# Altium integrated library SG_CAN_Board_2019.IntLib: 21 symbols
Pins are listed as number, name and electrical type; pins without a type are passive.

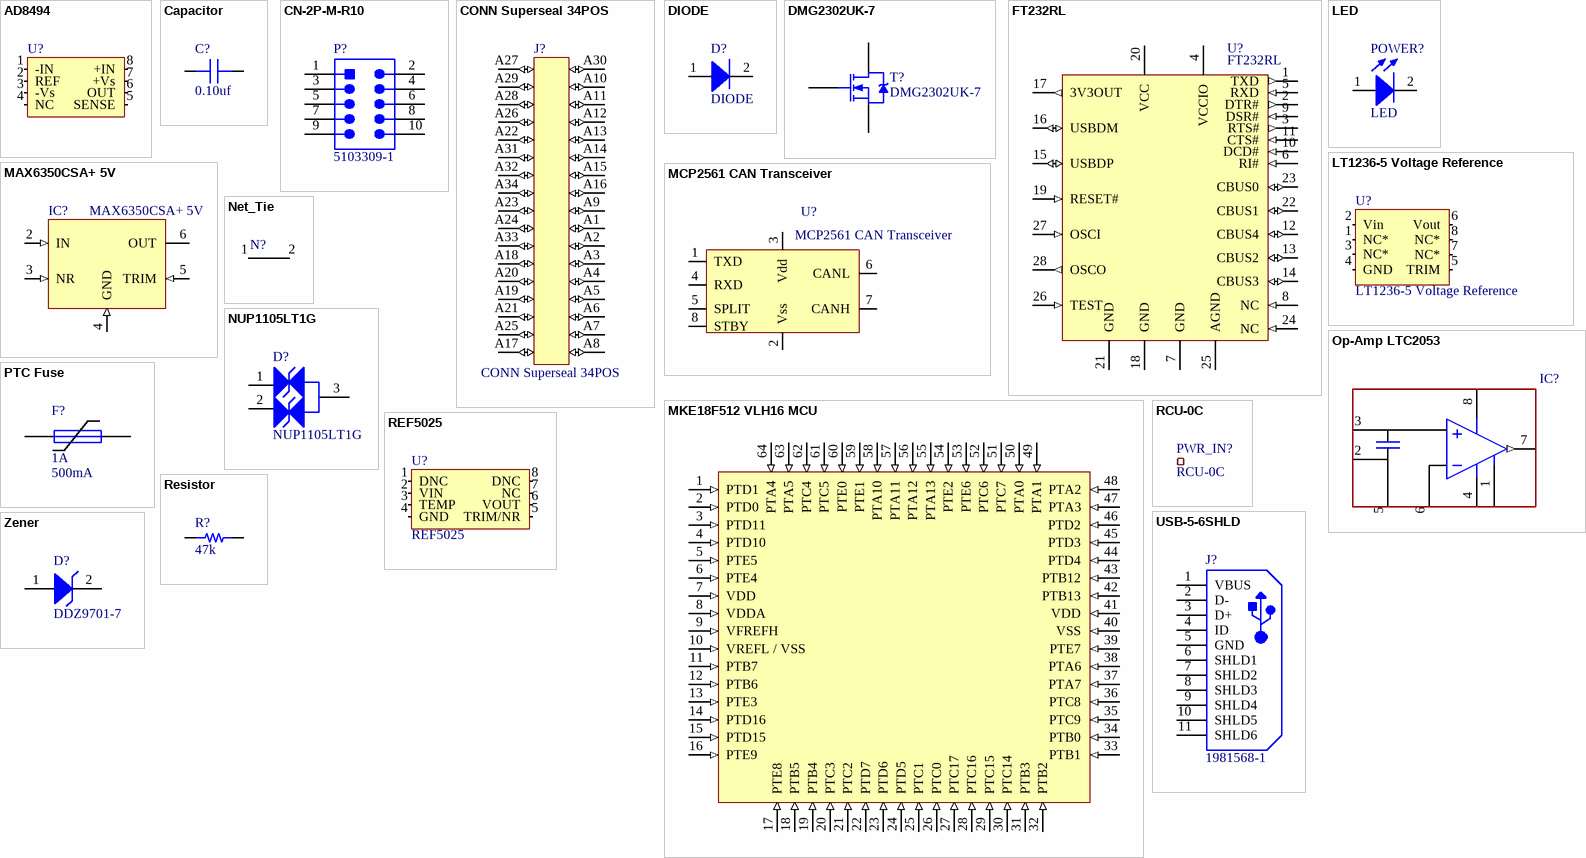
[diagram p0: symbols AD8494 to Zener]

## AD8494
designator U?
IC THRMOCPLE COLD JNC COMP 8MSOP; Manufacturer_id: 1; MfrPartNo: AD8494CRMZ; idOp_Amp: 3; Name: AD8494 Thermocouple Amplifier; Value: K-type; Amplifier_Type: Thermocouple Amplifier; Supply_Voltage: +-18,2.7-36; Created_By: Nick Mah; Drawer_id: 1; Num_Circuits: 1; Package: MSOP8; Link: https://www.digikey.com/product-detail/en/analog-devices-inc/AD8494CRMZ/AD8494CRMZ-ND/2606669; ComponentLink1Description: Datasheet; ComponentLink1URL: http://www.digchip.com/data/041/041-93390-AD8494.pdf; Supplier1: Digi-Key; Supplier1PartNo: AD8494CRMZ-ND
footprint MSOP-8
pins: 1 -IN (in), 2 REF (in), 3 -Vs (power), 4 NC, 5 SENSE (in), 6 OUT (out), 7 +Vs (power), 8 +IN (in)

## Capacitor
designator C?, comment value 0.10uf  (hidden comment: Capacitor MLCC 0.10uf 16V CAP 0603/1608)
Manufacturer_id: 1; idCapacitor: 223; Name: Cap_0.10uf_16V_CAP 0603/1608; Dielectric: Ceramic; Created_By: Nick Mah; Drawer_id: 1; Voltage_Rating: 16V; Package: CAP 0603/1608; Created_Date: 10/20/2018
footprint CAP 0603/1608
pins: 1, 2

## CN-2P-M-R10
designator P?, comment 5103309-1
2 row connector; Manufacturer_id: 1; idConn: 4; Name: CONN_TE_2X5POS; Value: CONN; Voltage_Rating: None; Num_Contacts: 10; Num_Rows: 2; Pitch: 2.54mm; Created_By: Aiku; Drawer_id: 1; MfrPartNo: 5103309-1; Link: https://www.digikey.com/product-detail/en/5103309-1/A33160-ND/1114898?utm_campaign=buynow&WT.z_cid=ref_octopart_dkc_buynow&utm_medium=aggregator&curr=usd&site=us&utm_source=octopart; ComponentLink1Description: Datasheet
footprint HDR2X5_SMT
pins: 1, 2, 3, 4, 5, 6, 7, 8, 9, 10

## CONN Superseal 34POS
designator J?
Connector Header Through Hole, Right Angle 34 position 0.118" (3.00mm); Manufacturer_id: 5; MfrPartNo: 6437288-1; idConn: 11; Drawer_id: 1; Name: AMP Superseal 34 POS; Voltage_Rating: 250VDC; Num_Contacts: 34; Num_Rows: 4; Pitch: 3mm; Value: CONN; Link: https://www.digikey.com/products/en?mpart=6437288-1&&csp=WT.z_cid%3Dsp_8004_20120425_buynow%26TE_cid%3D8004-1541898693362; ComponentLink1Description: Datasheet; ComponentLink1URL: https://www.te.com/commerce/DocumentDelivery/DDEController?Action=srchrtrv&DocNm=6437288-1&DocType=Customer+Drawing&DocLang=Japanese; Supplier1: Digi-Key; Supplier1PartNo: A124384-ND
footprint Superseal 34POS
pins: A1 (io), A2 (io), A3 (io), A4 (io), A5 (io), A6 (io), A7 (io), A8 (io), A9 (io), A10 (io), A11 (io), A12 (io), A13 (io), A14 (io), A15 (io), A16 (io), A17 (io), A18 (io), A19 (io), A20 (io), A21 (io), A22 (io), A23 (io), A24 (io), A25 (io), A26 (io), A27 (io), A28 (io), A29 (io), A30 (io), A31 (io), A32 (io), A33 (io), A34 (io)

## DIODE
designator D?
DIODE SCHOTTKY 30V 5A TMINIP2; Manufacturer_id: 1; idDiode: 12; Name: DB2431200L; Drawer_id: 1; Value: 5A; Type: Schottky; Num_Circuits: 1; Ic: 5A; Power: 30V; Package: SOD-128; MfrPartNo: DB2431200L; Link: https://www.digikey.com/product-detail/en/panasonic-electronic-components/DB2431200L/DB2431200LCT-ND/3884430; ComponentLink1Description: Datasheet; ComponentLink1URL: https://industrial.panasonic.com/content/data/SC/ds/ds4/DB2431200L_E.pdf; Supplier1: Digi-Key; Supplier1PartNo: DB2431200LCT-ND
footprint SOD-128
pins: 1 A, 2 K

## DMG2302UK-7
designator T?
MOSFET N-CHANNEL 30V 5A SOT23; Manufacturer_id: 1; idFETs: 6; Value: N_Channel; Vdss: 20V; Id: 2.8A; Rds_On: 90mOhm; Vgs(typ): 800mV; Vgs(Max): 1V; Created_By: Angel; Drawer_id: 1; Name: DMG2302UK-7; Num_Circuits: 1; Package: SOT-23; MfrPartNo: DMG2302UK-7; Link: https://www.digikey.com/product-detail/en/diodes-incorporated/DMG2302UK-7/DMG2302UK-7DICT-ND/6010163; Supplier1: Digi-Key
footprint SOT23-3
pins: 1 G, 2 S, 3 D

## FT232RL
designator U?
Manufacturer_id: 1; idIC_Interface: 3; Name: USB FTDI; Protocol: UART; Vin(Min): 3.3; Vin(Max): 5.25; Created_By: Kyle; Drawer_id: 1; MfrPartNo: FT232RL; Link: https://www.digikey.com/product-detail/en/ftdi-future-technology-devices-international-ltd/FT232RL-REEL/768-1007-1-ND/1836402
footprint SSOP-28
pins: 1 TXD (out), 2 DTR# (out), 3 RTS# (out), 4 VCCIO, 5 RXD (in), 6 RI# (in), 7 GND, 8 NC (in), 9 DSR# (in), 10 DCD# (in), 11 CTS# (in), 12 CBUS4 (io), 13 CBUS2 (io), 14 CBUS3 (io), 15 USBDP (io), 16 USBDM (io), 17 3V3OUT (out), 18 GND, 19 RESET# (in), 20 VCC, 21 GND, 22 CBUS1 (io), 23 CBUS0 (io), 24 NC (in), 25 AGND, 26 TEST (in), 27 OSCI (in), 28 OSCO (out)

## LED
designator POWER?
Manufacturer_id: 1; idLED: 2; Name: CMD17_0805_GREEN; Value: Green; Brightness: 7mcd; Id: 20mA; Vf: 2.1V; Drawer_id: 1; Package: 0805; Link: https://www.digikey.com/product-detail/en/visual-communications-company-vcc/CMD17-21VGD-TR8/L62505CT-ND/254936
footprint 0805_LED
pins: 1 A, 2 K

## LT1236-5 Voltage Reference
designator U?
Manufacturer_id: 1; idIC_Misc: 2; Name: Voltage Ref LT1236-5; Drawer_id: 1
footprint SOIC-8
pins: 1 NC* "DO NOT CONNECT", 2 Vin (in), 3 NC* "DO NOT CONNECT", 4 GND (in), 5 TRIM (out), 6 Vout (power), 7 NC* "DO NOT CONNECT", 8 NC* "DO NOT CONNECT"

## MAX6350CSA+ 5V
designator IC?
IC VREF SERIES 5V 8SOIC; Manufacturer_id: 1; idPMIC_Lin: 10; Name: MAX6350CSA+_5V_Ref; Vin(Max): 40V; Vout(Max): 12V; Created_By: Albert Panuco; Drawer_id: 1; Value: 5V; Output_Config: 5V; Num_Outputs: 1; Package: SOIC-8; MfrPartNo: MAX6350CSA+; Link: https://www.digikey.com/product-detail/en/maxim-integrated/MAX6350CSA/MAX6350CSA-ND/1867176; Updated_By: Albert Panuco
footprint SOIC-8
pins: 2 IN (in), 3 NR (in), 4 GND (in), 5 TRIM (in), 6 OUT (power)

## MCP2561 CAN Transceiver
designator U?
Manufacturer_id: 1; idIC_Interface: 5; Value: CAN/UART; Data_Rate: 1Mbps; Vin(Min): 4.5V; Vin(Max): 5.5V; Created_By: Angel Delgado; Drawer_id: 1; Name: CAN Transceiver; Type: Transceiver; Protocol: CAN; Num_Circuits: 1; Package: SOIC-8; MfrPartNo: MCP2561; Link: https://www.digikey.com/product-detail/en/microchip-technology/MCP2561T-E-SN/MCP2561T-E-SNCT-ND/5148846
footprint SOIC-8
pins: 1 TXD, 2 Vss, 3 Vdd, 4 RXD, 5 SPLIT, 6 CANL, 7 CANH, 8 STBY

## MKE18F512 VLH16 MCU
designator U?
idMCU: 1; Name: MKE18F512VLH16 MCU; Manufacturer_id: 1; Drawer_id: 1
footprint TQFP64
pins: 1 PTD1 (in), 2 PTD0 (in), 3 PTD11 (in), 4 PTD10 (in), 5 PTE5 (in), 6 PTE4 (in), 7 VDD (in), 8 VDDA (in), 9 VFREFH (in), 10 VREFL / VSS (in), 11 PTB7 (in), 12 PTB6 (in), 13 PTE3 (in), 14 PTD16 (in), 15 PTD15 (in), 16 PTE9 (in), 17 PTE8 (in), 18 PTB5 (in), 19 PTB4 (in), 20 PTC3 (in), 21 PTC2 (in), 22 PTD7 (in), 23 PTD6 (in), 24 PTD5 (in), 25 PTC1 (in), 26 PTC0 (in), 27 PTC17 (in), 28 PTC16 (in), 29 PTC15 (in), 30 PTC14 (in), 31 PTB3 (in), 32 PTB2 (in), 33 PTB1 (in), 34 PTB0 (in), 35 PTC9 (in), 36 PTC8 (in), 37 PTA7 (in), 38 PTA6 (in), 39 PTE7 (in), 40 VSS (in), 41 VDD (in), 42 PTB13 (in), 43 PTB12 (in), 44 PTD4 (in), 45 PTD3 (in), 46 PTD2 (in), 47 PTA3 (in), 48 PTA2 (in), 49 PTA1 (in), 50 PTA0 (in), 51 PTC7 (in), 52 PTC6 (in), 53 PTE6 (in), 54 PTE2 (in), 55 PTA13 (in), 56 PTA12 (in), 57 PTA11 (in), 58 PTA10 (in), 59 PTE1 (in), 60 PTE0 (in), 61 PTC5 (in), 62 PTC4 (in), 63 PTA5 (in), 64 PTA4 (in)

## Net_Tie
designator N?
Manufacturer_id: 1; idFuse: 3; Name: Net Tie; Drawer_id: 1; idShunt: 1
footprint Net_Tie
pins: 1, 2

## NUP1105LT1G
designator D?
ESD Protection Diode; Manufacturer_id: 1; idDiode: 7; Name: SOT-23_350W_Zener; Value: TVS_24V; Type: Zener; Ic: 8A; Power: 350W; Drawer_id: 1; Num_Circuits: 1; Package: SOT-23; MfrPartNo: NUP1105LT1G; Link: https://www.digikey.com/product-detail/en/on-semiconductor/NUP1105LT1G/NUP1105LT1GOSCT-ND/2122067; ComponentLink1URL: https://www.digikey.com/product-detail/en/on-semiconductor/NUP1105LT1G/NUP1105LT1GOSCT-ND/2122067; Supplier1: Digikey; Supplier1PartNo: NUP1105LT1GOSCT-ND
footprint SOT-23 (TO-236)
pins: 1 K, 2 K, 3 K

## Op-Amp LTC2053
designator IC?
Manufacturer_id: 1; MfrPartNo: LTC2053; idOp_Amp: 2; Name: Instrumentation Amplifier; Amplifier_Type: Instrumentation; Supply_Voltage: 2.7V to ±5.5V; Created_By: Angel Delgado; Drawer_id: 1; Num_Circuits: 1; Package: MSOP8; Link: https://www.digikey.com/product-detail/en/linear-technology-analog-devices/LTC2053CMS8-TRPBF/LTC2053CMS8-TRPBFCT-ND/5892339
footprint MSOP-8
pins: 1, 2 -IN, 3 +IN, 4 V- (power), 5 REF, 6 RG, 7 OUT (out), 8 V+ (power)

## PTC Fuse
designator F?, comment 1A  I_hold: 500mA
Fuse; Manufacturer_id: 1; MfrPartNo: 1206L050/15YR; idFuse: 5; Name: PTC Poly Fuse Resettable; I_max: 100A; V_max: 15V; Pd_Typ: 600mW; Created_By: Angel; Published: 8-Jun-2000; LatestRevisionDate: 17-Jul-2002; LatestRevisionNote: Re-released for DXP Platform.; PackageReference: PIN-W2/E2.8; Publisher: Altium Limited; PackageDescription: Thru-Hole; 2 Leads; Drawer_id: 1; I_trip: 1A; Link: https://www.digikey.com/product-detail/en/littelfuse-inc/1206L050-15YR/F3733CT-ND/2486168; Created_Date: 10/27/2018
footprint PIN-W2/E2.8 (Thru-Hole; 2 Leads)
simulation model FUSE (Spice Subcircuit)
footprint PTC Fuse 1206/3216
pins: 1, 2

## RCU-0C
designator PWR_IN?
Manufacturer_id: 1; idTable: 5; Name: RCU-0C_Test_Point; Drawer_id: 1; Package: 0603; MfrPartNo: RCU-0C; Link: https://www.digikey.com/product-detail/en/te-connectivity-amp-connectors/RCU-0C/A106145CT-ND/3477802; ComponentLink1Description: Datasheet; ComponentLink1URL: https://www.te.com/commerce/DocumentDelivery/DDEController?Action=srchrtrv&DocNm=1773266&DocType=DS&DocLang=English
footprint RCU-0C
pins: 1

## REF5025
designator U?
Series Voltage Reference IC ±0.1% 10mA 8-SOIC; Manufacturer_id: 1; MfrPartNo: REF5025AIDR; idPMIC_Lin: 9; Name: REF5025_2.5V_Reg; Value: 2.5V Reference; Vin(Min): 2.7V; Vin(Max): 18V; Vout(Min): 2.5V; Vout_Type: Fixed; Dropout_Voltage: 200mV; Drawer_id: 1; Num_Outputs: 1; Power: Reference; Vout(Max): 2.5V; Current_Rating: 10mA; Package: SOIC-8; Link: https://www.digikey.com/product-detail/en/texas-instruments/REF5025AIDR/296-39165-2-ND/1900163; ComponentLink1Description: Datasheet; ComponentLink1URL: http://www.ti.com/lit/ds/symlink/ref5020.pdf; Supplier1: Digi-Key; Supplier1PartNo: 296-39165-2-ND
footprint SOIC-8
pins: 1 DNC, 2 VIN (power), 3 TEMP (out), 4 GND (power), 5 TRIM/NR (in), 6 VOUT (power), 7 NC, 8 DNC

## Resistor
designator R?, comment value 47k  (hidden comment: Resistor 47k 0805 1/10W 1%)
Manufacturer_id: 1; idResistor: 545; Name: Res_47k_0805_1/10W_1%; Created_By: Nick Mah; Supplier 1: Digi-Key; Drawer_id: 1; Tolerance: 1%; Power: 1/10W; Package: 0805; ComponentLink1Description: Datasheet; Created_Date: 2018-10-20
footprint RES 0805/2012
pins: 1, 2

## USB-5-6SHLD
designator J?, comment 1981568-1
USB Micro Type B; Manufacturer_id: 1; idConn: 5; Name: TE USB Micro; Value: CONN; Created_By: Aiku; MfrPartNo: 1981568-1; Drawer_id: 1; Num_Contacts: 5; Link: https://www.mouser.com/ProductDetail/TE-Connectivity-AMP/1981568-1?qs=sGAEpiMZZMulM8LPOQ%252bykzEIUPbUCiSfqsfxH3Oq%252bYo%3d; ComponentLink1Description: Datasheet; Supplier1: TE; Created_Date: 10/20/2018
footprint TECO-1981568-5_V
pins: 1 VBUS, 2 D-, 3 D+, 4 ID, 5 GND, 6 SHLD1, 7 SHLD2, 8 SHLD3, 9 SHLD4, 10 SHLD5, 11 SHLD6

## Zener
designator D?, comment DDZ9701-7
Zener Diode 14V 500mW ±5% Surface Mount SOD-123; Manufacturer_id: 8; idDiode: 10; Drawer_id: 1; Value: 14Vz; MfrPartNo: DDZ9701-7; Name: DDZ9701; Type: Zener; Num_Circuits: 1; Power: 500mW; Package: SOD-123; Link: https://www.digikey.com/product-detail/en/diodes-incorporated/DDZ9701-7/DDZ9701-7DICT-ND/3877402; ComponentLink1Description: Datasheet; ComponentLink1URL: https://www.diodes.com/assets/Datasheets/ds30410.pdf; Supplier1: Digi-Key; Supplier1PartNo: DDZ9701-7DICT-ND
footprint SOD123F
pins: 1 A, 2 K